# EAGLE library part POLOLU_ENCODER (library pololu_encoder)
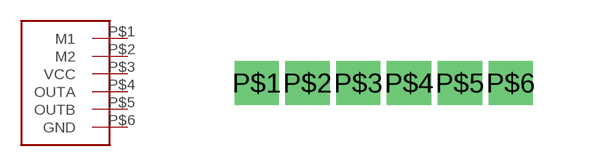
[diagram p0: symbol with the pads of POLOLU_ENCODER; footprint POLOLU_ENCODER]

Designator prefix -

## POLOLU_ENCODER  [POLOLU_ENCODER]
P$1  M1
P$2  M2
P$3  VCC
P$4  OUTA
P$5  OUTB
P$6  GND

## Footprint POLOLU_ENCODER (pad centres in mm)
drill 0.6 pad 1.016 square: P$1 0,0; P$2 1.27,0; P$3 2.54,0; P$4 3.81,0; P$5 5.08,0; P$6 6.35,0